# Altium footprint library bms_R00.PcbLib: 44 footprints (part 1 of 3)
Each footprint in its own frame and in the unit in brackets; x right, y up, seen from the top. Pads: shape width x height; smd on the part's side, far side on the other; paste and mask are expansions set on the pad; w line width, h text height; cw(c..) or ccw(c..) is an arc to the next point about the centre after c.
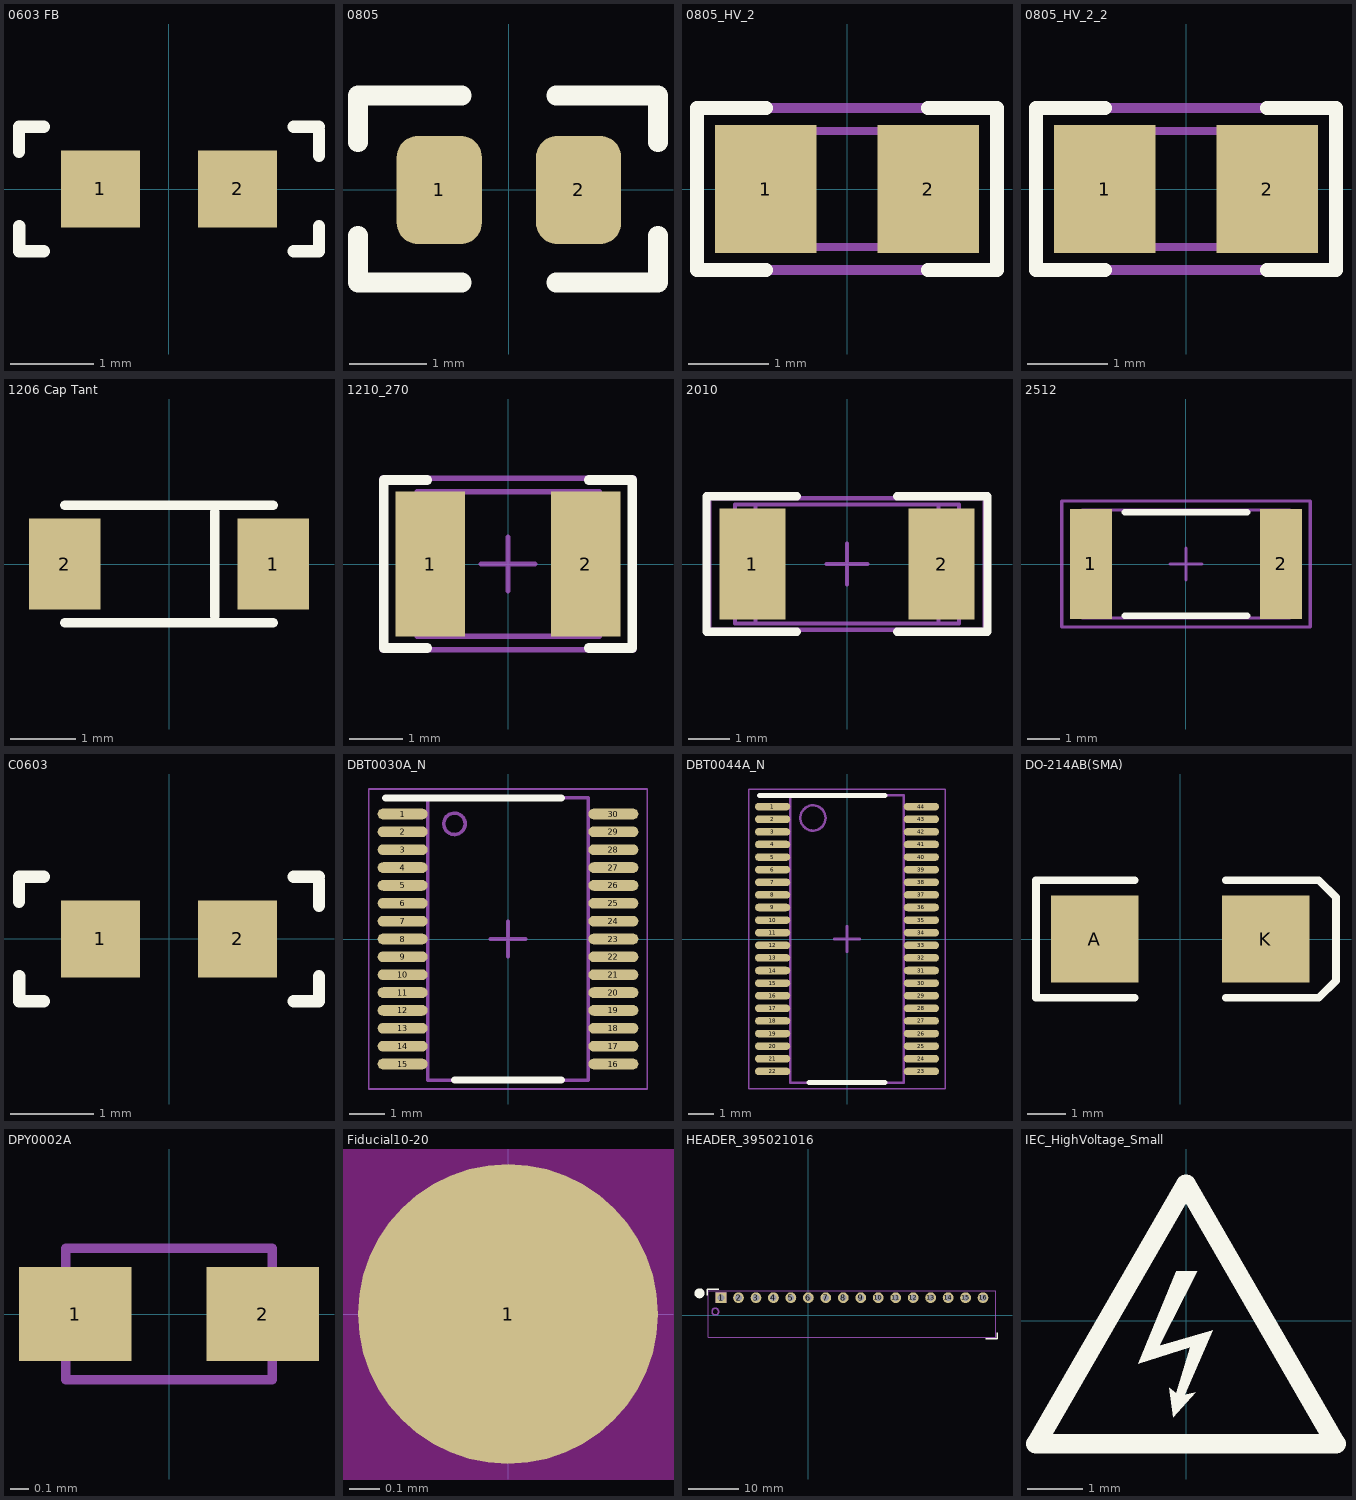
[diagram p0: the footprints below, top view; thin cyan lines are the x and y axes]

## 0603 FB [mm]
height 15.11
pads (2):
  rect 0.95x0.925 smd mask+0.051: 1(-0.825,0) 2(0.825,0)
Top Overlay:
  lines w0.15: -1.805,-0.75 -1.505,-0.75 ; -1.805,0.45 -1.805,0.75 -1.505,0.75 ; -1.804,-0.45 -1.8,-0.75 ; 1.5,-0.75 1.8,-0.75 ; 1.5,0.75 1.8,0.75 ; 1.805,-0.75 1.805,-0.45 ; 1.805,0.4 1.805,0.7
3D body "ferrite_bead_0603.STEP": height 0.8, standoff -0.03, extent -0.8,-0.425 0.8,0.402

## 0805 [mm] "Chip Resistor; Body 2.0 x 1.3 mm (LxW typ)"
height 0.65
pads (2):
  rrect50% 1.1x1.4 smd: 1(-0.9,0) 2(0.9,0)
Top Overlay:
  lines w0.254: -1.95,-0.591 -1.95,-1.195 -0.61,-1.195 ; -1.95,0.616 -1.95,1.22 -0.61,1.22 ; 0.61,-1.195 1.925,-1.195 1.925,-0.591 ; 0.61,1.22 1.925,1.22 1.925,0.616
3D body "SW3dPS-0805 SMD Resistor.STEP": height 0.78, standoff 0, extent -1,-0.625 1,0.625

## 0805_HV_2 [mil]
height 594.88
pads (2):
  rect 50x63 smd: 1(-40,0) 2(40,0)
Top Overlay:
  lines w7: -40,-40 -74,-40 -74,0 -74,40 -40,40 ; 40,-40 74,-40 74,0 74,40 40,40
Mechanical 5:
  lines w5: -74,-40 74,-40 74,40 -74,40 -74,-40
  text ".Designator" at -51,-19 h45.28
Mechanical 13:
  lines w3.94: -25.59,-28.54 -25.59,28.54 ; 25.59,-28.54 25.59,28.54 ; -43.31,-28.54 43.31,-28.54 43.31,28.54 -43.31,28.54 -43.31,-28.54
3D body: height 57.09, standoff 0, extent -43.29,-28.52 -25.61,28.52
3D body: height 57.09, standoff 0, extent -25.57,-28.52 25.57,28.52
3D body: height 57.09, standoff 0, extent 25.61,-28.52 43.29,28.52

## 0805_HV_2_2 [mil]
pads (2):
  rect 50x63 smd: 1(-40,0) 2(40,0)
Top Overlay:
  lines w7: -40,-40 -74,-40 -74,0 -74,40 -40,40 ; 40,-40 74,-40 74,0 74,40 40,40
Mechanical 5:
  lines w5: -74,-40 -74,40 74,40 74,-40 -74,-40
  text ".Designator" at -51,-19 h45.28
Mechanical 13:
  lines w3.94: -25.59,-28.54 -25.59,28.54 ; 25.59,-28.54 25.59,28.54 ; -43.31,-28.54 -43.31,28.54 43.31,28.54 43.31,-28.54 -43.31,-28.54
3D body: height 57.09, standoff 0, extent 25.61,-28.52 43.29,28.52
3D body: height 57.09, standoff 0, extent -25.57,-28.52 25.57,28.52
3D body: height 57.09, standoff 0, extent -43.29,-28.52 -25.61,28.52

## 1206 Cap Tant [mm]
height 15.11
pads (2):
  rect 1.1x1.4 smd mask+0.076: 1(1.6,0) 2(-1.6,0)
Top Overlay:
  lines w0.15: -1.6,-0.9 1.6,-0.9 ; -1.6,0.9 1.6,0.9 ; 0.7,-0.8 0.7,0.8
3D body "T491A475K016AT.step": height 1.81, standoff 0, extent -1.73,-0.9 1.67,0.9

## 1210_270 [mm]
height 15.11
pads (2):
  rect 1.3x2.7 smd: 1(-1.45,0) 2(1.45,0)
Top Overlay:
  lines w0.178: -1.511,-1.568 -2.316,-1.568 -2.316,1.568 -1.511,1.568 ; 1.511,-1.568 2.316,-1.568 2.316,1.568 1.511,1.568
Mechanical 5:
  lines w0.1: -1.7,-1.35 1.7,-1.35 1.7,1.35 -1.7,1.35 -1.7,-1.35
  text ".Designator" at -1.4,-0.375 h1.15
Mechanical 13:
  lines w0.1: -1.2,-1.35 -1.2,1.35 ; 1.2,-1.35 1.2,1.35 ; -1.7,-1.35 -1.7,1.35 1.7,1.35 1.7,-1.35 -1.7,-1.35
Mechanical 15:
  lines w0.1: -0.5,0 0.5,0 ; 0,-0.5 0,0.5 ; -2.35,-1.6 -2.35,1.6 2.35,1.6 2.35,-1.6 -2.35,-1.6
3D body: height 2.7, standoff 0, extent -1.699,-1.349 -1.201,1.349
3D body: height 2.7, standoff 0, extent -1.199,-1.349 1.199,1.349
3D body: height 2.7, standoff 0, extent 1.201,-1.349 1.699,1.349

## 2010 [mm]
height 15.11
pads (2):
  rect 1.6x2.7 smd: 1(-2.3,0) 2(2.3,0)
Top Overlay:
  lines w0.2: -1.219,-1.65 -3.419,-1.65 -3.419,1.65 -1.219,1.65 ; 1.219,-1.65 3.419,-1.65 3.419,1.65 1.219,1.65
Mechanical 5:
  lines w0.1: -2.73,-1.45 2.73,-1.45 2.73,1.45 -2.73,1.45 -2.73,-1.45
  text ".Designator" at -1.875,-0.5 h1.15
Mechanical 13:
  lines w0.1: -2.23,-1.45 -2.23,1.45 ; 2.23,-1.45 2.23,1.45 ; -2.73,-1.45 -2.73,1.45 2.73,1.45 2.73,-1.45 -2.73,-1.45
Mechanical 15:
  lines w0.1: -0.5,0 0.5,0 ; 0,-0.5 0,0.5 ; -3.35,-1.6 -3.35,1.6 3.35,1.6 3.35,-1.6 -3.35,-1.6
3D body: height 1.66, standoff 0, extent 2.231,-1.449 2.729,1.449
3D body: height 1.66, standoff 0, extent -2.229,-1.449 2.229,1.449
3D body: height 1.66, standoff 0, extent -2.729,-1.449 -2.231,1.449

## 2512 [mm]
height 15.11
pads (2):
  rect 1.3x3.4 smd: 1(-2.95,0) 2(2.95,0)
Top Overlay:
  lines w0.2: -1.9,-1.6 1.9,-1.6 ; -1.9,1.6 1.9,1.6
Mechanical 5:
  lines w0.1: -3.225,-1.675 3.225,-1.675 3.225,1.675 -3.225,1.675 -3.225,-1.675
  text ".Designator" at -1.85,-0.5 h1.15
Mechanical 13:
  lines w0.1: -2.463,-1.675 -2.463,1.675 ; 2.463,-1.675 2.463,1.675 ; -3.225,-1.675 3.225,-1.675 3.225,1.675 -3.225,1.675 -3.225,-1.675
Mechanical 15:
  lines w0.1: -0.5,0 0.5,0 ; 0,-0.5 0,0.5 ; -3.85,-1.95 3.85,-1.95 3.85,1.95 -3.85,1.95 -3.85,-1.95
3D body: height 0.71, standoff 0, extent -3.224,-1.674 -2.464,1.674
3D body: height 0.71, standoff 0, extent -2.462,-1.674 2.462,1.674
3D body: height 0.71, standoff 0, extent 2.464,-1.674 3.224,1.674

## C0603 [mm]
height 15.11
pads (2):
  rect 0.95x0.925 smd mask+0.051: 1(-0.825,0) 2(0.825,0)
Top Overlay:
  lines w0.15: -1.805,-0.75 -1.505,-0.75 ; -1.805,0.45 -1.805,0.75 -1.505,0.75 ; -1.804,-0.45 -1.8,-0.75 ; 1.5,-0.75 1.8,-0.75 ; 1.5,0.75 1.8,0.75 ; 1.805,-0.75 1.805,-0.45 ; 1.805,0.4 1.805,0.7
3D body "User Library-0603(1608M) Res.STEP": height 0.79, standoff 0, extent -1,-0.394 1,0.394

## DBT0030A_N [mm]
height 15.11
pads (30):
  oval 1.4x0.3 smd: 1(-2.95,3.5) 2(-2.95,3) 3(-2.95,2.5) 4(-2.95,2) 5(-2.95,1.5) 6(-2.95,1) 7(-2.95,0.5) 8(-2.95,0) 9(-2.95,-0.5) 10(-2.95,-1) 11(-2.95,-1.5) 12(-2.95,-2) 13(-2.95,-2.5) 14(-2.95,-3) 15(-2.95,-3.5) 16(2.95,-3.5) 17(2.95,-3) 18(2.95,-2.5) 19(2.95,-2) 20(2.95,-1.5) 21(2.95,-1) 22(2.95,-0.5) 23(2.95,0) 24(2.95,0.5) 25(2.95,1) 26(2.95,1.5) 27(2.95,2) 28(2.95,2.5) 29(2.95,3) 30(2.95,3.5)
Top Overlay:
  lines w0.2: -3.425,3.95 1.5,3.95 ; -1.5,-3.95 1.5,-3.95
Mechanical 5:
  circle w0.1: c-1.5,3.225 r0.3
  lines w0.1: -2.25,-3.95 -2.25,3.95 2.25,3.95 2.25,-3.95 -2.25,-3.95
  text ".Designator" at 0.88,0.368 h1.15
Mechanical 15:
  lines w0.05: -3.9,-4.2 3.9,-4.2 3.9,4.2 -3.9,4.2 -3.9,-4.2
  lines w0.1: -0.5,0 0.5,0 ; 0,-0.5 0,0.5
3D body "DBT0030A.stp": height 1.2, standoff 0, extent -3.205,-3.9 3.206,3.9

## DBT0044A_N [mm]
height 15.11
pads (44):
  oval 1.4x0.3 smd: 1(-2.95,5.25) 2(-2.95,4.75) 3(-2.95,4.25) 4(-2.95,3.75) 5(-2.95,3.25) 6(-2.95,2.75) 7(-2.95,2.25) 8(-2.95,1.75) 9(-2.95,1.25) 10(-2.95,0.75) 11(-2.95,0.25) 12(-2.95,-0.25) 13(-2.95,-0.75) 14(-2.95,-1.25) 15(-2.95,-1.75) 16(-2.95,-2.25) 17(-2.95,-2.75) 18(-2.95,-3.25) 19(-2.95,-3.75) 20(-2.95,-4.25) 21(-2.95,-4.75) 22(-2.95,-5.25) 23(2.95,-5.25) 24(2.95,-4.75) 25(2.95,-4.25) 26(2.95,-3.75) 27(2.95,-3.25) 28(2.95,-2.75) 29(2.95,-2.25) 30(2.95,-1.75) 31(2.95,-1.25) 32(2.95,-0.75) 33(2.95,-0.25) 34(2.95,0.25) 35(2.95,0.75) 36(2.95,1.25) 37(2.95,1.75) 38(2.95,2.25) 39(2.95,2.75) 40(2.95,3.25) 41(2.95,3.75) 42(2.95,4.25) 43(2.95,4.75) 44(2.95,5.25)
Top Overlay:
  lines w0.2: -3.475,5.7 1.5,5.7 ; -1.5,-5.7 1.5,-5.7
Mechanical 5:
  circle w0.1: c-1.35,4.8 r0.5
  lines w0.1: -2.25,-5.7 -2.25,5.7 2.25,5.7 2.25,-5.7 -2.25,-5.7
  text ".Designator" at 1.016,1.245 h1.15
Mechanical 15:
  lines w0.05: -3.9,-5.95 3.9,-5.95 3.9,5.95 -3.9,5.95 -3.9,-5.95
  lines w0.1: -0.5,0 0.5,0 ; 0,-0.5 0,0.5
3D body "DBT0044A.stp": height 1.2, standoff 0, extent -3.205,-5.575 3.206,5.575

## DO-214AB(SMA) [mm]
height 2.54
pads (2):
  rect 2.3x2.3 smd: A(-2.25,0) K(2.25,0)
Top Overlay:
  lines w0.2: -1.2,-1.55 -3.8,-1.55 -3.8,1.55 -1.2,1.55 ; 1.2,-1.55 3.65,-1.55 4.1,-1.1 4.1,1.1 3.65,1.55 1.2,1.55
3D body "User Library-DO-214AC(SMA).STEP": height 2.29, standoff 0, extent -2.819,-1.397 2.667,1.397

## DPY0002A [mm]
height 15.11
pads (2):
  rect 0.6x0.5 smd: 1(-0.5,0) 2(0.5,0)
Mechanical 5:
  lines w0.05: -0.55,-0.35 -0.55,0.35 0.55,0.35 0.55,-0.35 -0.55,-0.35
  text ".Designator" at 0.186,0.178 h1.15
3D body: height 0.4, standoff 0, extent -0.549,-0.349 0.549,0.349

## Fiducial10-20 [mm]
height 15.11
pads (1):
  round 1 smd mask+0.5: 1(0,0)
Top Layer keep-out:
  circle w1.178: c0,0 r0.5

## HEADER_395021016 [mil]
pads (16):
  rect 85x85 hole 52: 1(-688.98,137.8)
  round 85 hole 52: 2(-551.18,137.8) 3(-413.39,137.8) 4(-275.59,137.8) 5(-137.8,137.8) 6(0,137.8) 7(137.8,137.8) 8(275.59,137.8) 9(413.39,137.8) 10(551.18,137.8) 11(688.98,137.8) 12(826.77,137.8) 13(964.57,137.8) 14(1102.36,137.8) 15(1240.16,137.8) 16(1377.95,137.8)
Top Overlay:
  circle w39.37: c-858.98,172.8 r19.68
  lines w10: -799.21,156.35 -799.21,202.76 -708.66,202.76 ; 1397.64,-184.2 1488.19,-184.2 1488.19,-137.8
Mechanical 5:
  circle w10: c-733.98,27.8 r26.41
  rectangle: -732.26,94.48 -645.65,181.1
  lines w5: 1475,191.8 -787.99,191.8 -787.99,-175.2 1476.97,-175.2 1476.97,191.8
  text ".Designator" at -70.87,-19.68 h40
3D body "395021016.stp": height 270, standoff -140, extent -785,-170 1475,190

## IEC_HighVoltage_Small [mm]
height 15.11
Top Overlay:
  region: -0.178,0.889 0.203,0.889 -0.483,-0.457 0.483,-0.178 -0.025,-1.346 0.178,-1.295 -0.229,-1.753 -0.305,-1.219 -0.178,-1.321 0.076,-0.483 -0.864,-0.787
  lines w0.356: -2.718,-2.235 2.718,-2.235 0,2.472 -2.718,-2.235